# EAGLE library part TDA8505 (library TDA8505)
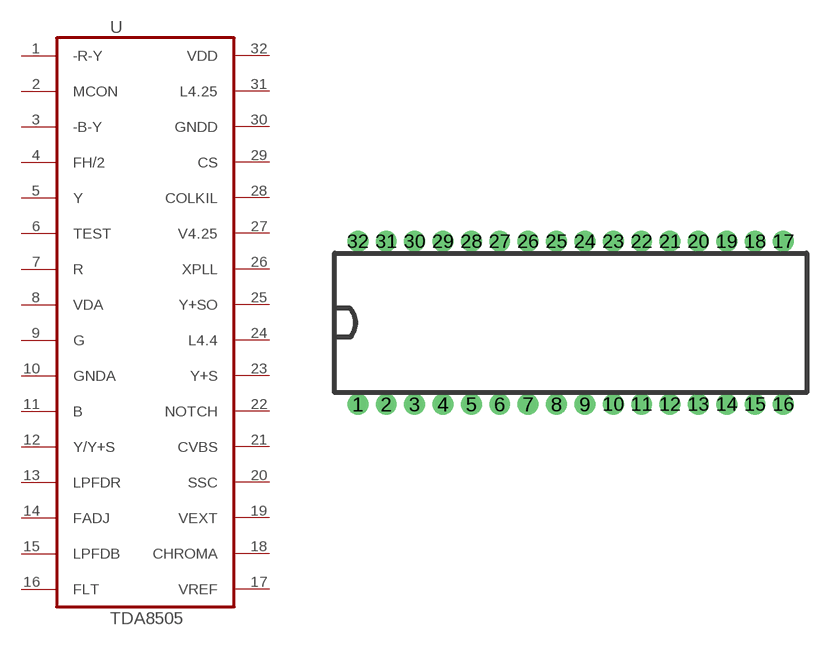
[diagram p0: symbol with the pads of PDIP32; footprint PDIP32]

Designator prefix -

## TDA8505  [PDIP32]
1  -R-Y  in
2  MCON  in
3  -B-Y  in
4  FH/2  in
5  Y  in
6  TEST  in
7  R  in
8  VDA  in
9  G  in
10  GNDA  in
11  B  in
12  Y/Y+S  in
13  LPFDR  in
14  FADJ  in
15  LPFDB  in
16  FLT  in
17  VREF  hiz
18  CHROMA  hiz
19  VEXT  hiz
20  SSC  hiz
21  CVBS  hiz
22  NOTCH  hiz
23  Y+S  hiz
24  L4.4  hiz
25  Y+SO  hiz
26  XPLL  hiz
27  V4.25  hiz
28  COLKIL  hiz
29  CS  hiz
30  GNDD  hiz
31  L4.25  hiz
32  VDD  hiz

## Footprint PDIP32 (pad centres in mm)
P-SDIP20-6.3x19-1.78 Source: Renesas .. rej09b0252_r8c1a1bhm.pdf
drill 0.8 pad 1.27: 1 -12.827,-5.08; 2 -11.049,-5.08; 3 -9.271,-5.08; 4 -7.493,-5.08; 5 -5.715,-5.08; 6 -3.937,-5.08; 7 -2.159,-5.08; 8 -0.381,-5.08; 9 1.397,-5.08; 10 3.175,-5.08; 11 4.953,-5.08; 12 6.731,-5.08; 13 8.509,-5.08; 14 10.287,-5.08; 15 12.065,-5.08; 16 13.843,-5.08; 17 13.843,5.12; 18 12.065,5.12; 19 10.287,5.12; 20 8.509,5.12; 21 6.731,5.12; 22 4.953,5.12; 23 3.175,5.12; 24 1.397,5.12; 25 -0.381,5.12; 26 -2.159,5.12; 27 -3.937,5.12; 28 -5.715,5.12; 29 -7.493,5.12; 30 -9.271,5.12; 31 -11.049,5.12; 32 -12.827,5.12